# EAGLE library part CLX6A (library Discrete)
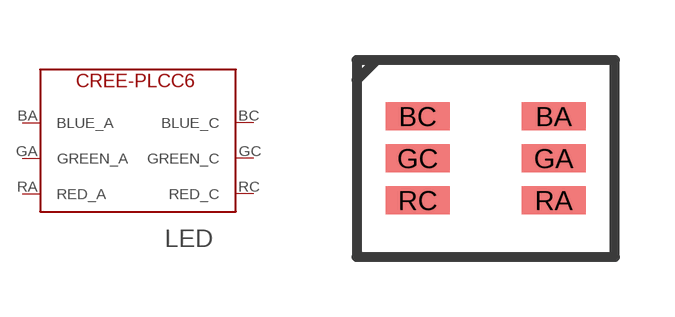
[diagram p18: symbol with the pads of CLX6A; footprint CLX6A]

Designator prefix LED

## CLX6A  [CLX6A]
BA  BLUE_A
BC  BLUE_C
GA  GREEN_A
GC  GREEN_C
RA  RED_A
RC  RED_C

## Footprint CLX6A (pad centres in mm)
smd 1.6 x 0.7: BA 1.7,1.05; BC -1.7,1.05; GA 1.7,0; GC -1.7,0; RA 1.7,-1.05; RC -1.7,-1.05